# EAGLE library part STEMMA_I2C (library Adafruit MPU6050)
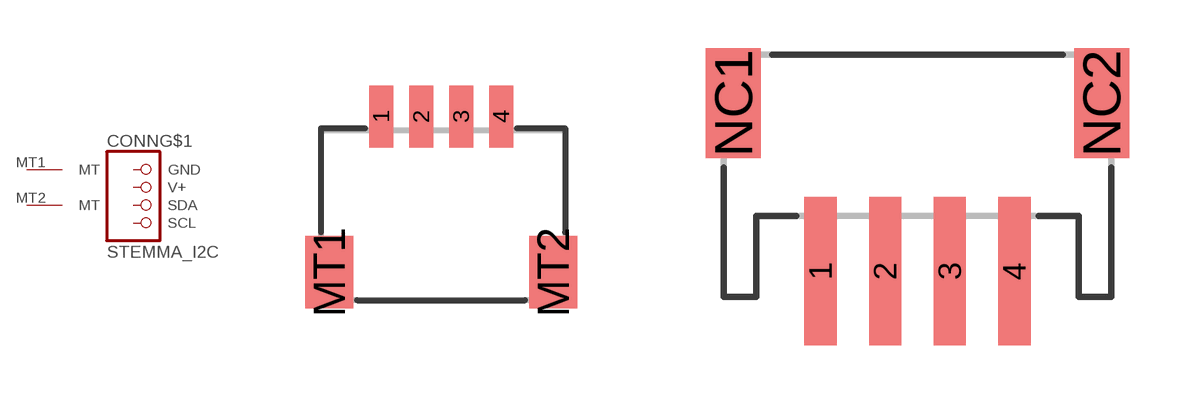
[diagram p4: symbol with the pads of JST_SH4; footprints JST_SH4, JSTPH4]

Designator prefix CONN; gates G$1=STEMMA_I2C G$2=MOUNTING G$3=MOUNTING

## STEMMA_I2C_QT  [JST_SH4]
1  G$1:GND  pas
2  G$1:V+  pas
3  G$1:SDA  pas
4  G$1:SCL  pas
MT1  G$2:MT
MT2  G$3:MT

## STEMMA_I2C_RASMT  [JSTPH4]
1  G$1:GND  pas
2  G$1:V+  pas
3  G$1:SDA  pas
4  G$1:SCL  pas
NC1  G$2:MT
NC2  G$3:MT

## Footprint JST_SH4 (pad centres in mm)
smd 0.6 x 1.55: 1 -1.5,2.514; 2 -0.5,2.514; 3 0.5,2.514; 4 1.5,2.514
smd 1.2 x 1.8: MT1 -2.8,-1.386; MT2 2.8,-1.386

## Footprint JSTPH4 (pad centres in mm)
4 Pin JST PH Series Female Connector Righ-Angle SMT
smd 1 x 4.6: 1 -3,-3.7; 2 -1,-3.7; 3 1,-3.7; 4 3,-3.7
smd 1.7 x 3.4: NC1 -5.7,1.5; NC2 5.7,1.5